# Altium schematic symbol library Wristband-EH-v1.SCHLIB: 20 symbols
Pins are listed as number, name and electrical type; pins without a type are passive.

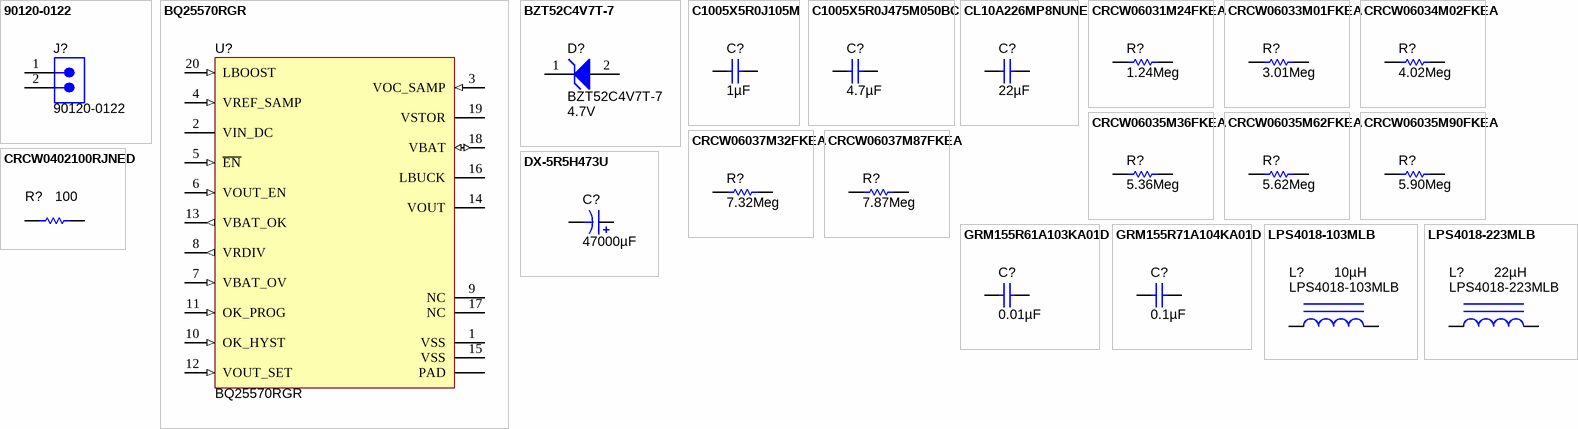
[diagram p0: symbols 90120-0122 to LPS4018-223MLB]

## 90120-0122
designator J?
Header, 100mil, 2x1, Tin plated, TH; Manufacturer: Molex; SymbolCreator: a0412235; U/M: EA; SymbolVersion: 2013-03-14; PartNumber: 90120-0122; CompType: Header; RoHS: Y; PackageReference: Header 2x1; MountType: TH; ComponentLink1Description: Datasheet Link; ComponentLink1URL: http://www.molex.com/pdm_docs/sd/901200122_sd.pdf; Publisher: Texas Instruments; LatestRevisionDate: 2013-09-12; Supplier 1: Digi-Key; Supplier Part Number 1: WM8072-ND; Supplier 2: Mouser; Supplier Part Number 2: 538-90120-0122; Supplier 3: Newark; Supplier Part Number 3: 19M8215
footprint CONN_90120-0122
pins: 1, 2
1 alternate drawing of the same symbol

## BQ25570RGR
designator U?
Ultra Low Power Harvester Power Management IC with Boost Charger, and Nano-Powered Buck Converter, RGR0020A; Alternate Manufacturer: None; Manufacturer: Texas Instruments; SymbolCreator: a0412235; U/M: EA; SymbolVersion: 2013-01-16; PartNumber: BQ25570RGR; PackageReference: RGR0020A; MountType: SMT; ComponentLink1Description: Datasheet Link; ComponentLink1URL: https://sps06.itg.ti.com/sites/KMS/crossdivteams/altium/docs/ComponentDatasheets/bq25570_DS_SLUSBH2_20130619.pdf; CompType: IC; RoHS: Y; Publisher: Texas Instruments; LatestRevisionDate: 2013-09-13; LatestRevisionNote: Added Parts
footprint RGR0020A
pins: 1 VSS (power), 2 VIN_DC (power), 3 VOC_SAMP (in), 4 VREF_SAMP (in), 5 ~{EN} (in), 6 VOUT_EN (in), 7 VBAT_OV (in), 8 VRDIV (out), 9 NC (power), 10 OK_HYST (in), 11 OK_PROG (in), 12 VOUT_SET (in), 13 VBAT_OK (out), 14 VOUT (power), 15 VSS (power), 16 LBUCK, 17 NC, 18 VBAT (io), 19 VSTOR (power), 20 LBOOST (in), 21 PAD (power)

## BZT52C4V7T-7
designator D?  value 4.7V
Diode, Zener, 4.7V, 300mW, SOD-523; Manufacturer: Diodes Inc.; U/M: EA; Power_W: 0.3; Vz_V: 4.7; Value1: 0.3W; RJA_CperW: 417; CompType: Zener; SymbolVersion: 2010-08-25; PartNumber: BZT52C4V7T-7; PackageReference: SOD-523; Vr_V: N/A; MountType: SMT; RoHS: Y; ComponentLink1Description: Datasheet link; ComponentLink1URL: http://www.diodes.com/datasheets/ds30502.pdf; Published: 2008-10-08; Publisher: Texas Instruments; LatestRevisionDate: 2013-09-09; LatestRevisionNote: Updated Supplier Data; Supplier 1: Digi-Key; Supplier Part Number 1: BZT52C4V7T-7DICT-ND; Supplier 2: Mouser; Supplier Part Number 2: 621-BZT52C4V7T-7
signal-integrity model Diode
footprint SOD-523
pins: 1 K, 2 A

## C1005X5R0J105M
designator C?  ValueDisplayed: 1µF  (hidden comment: C1005X5R0J105M)
CAP, CERM, 1uF, 6.3V, +/-20%, X5R, 0402; Manufacturer: TDK; Polarized: N; CompType: Capacitor; U/M: EA; Cap_F: 0.000001; Tolerance_%: 20; ESR_Ohm: 0.0079; Value1: 0.0079 ohm; VDC_V: 6.3; TaMin_C: -55; TaMax_C: 85; Cap_Case: 0402; SymbolVersion: 2008-07-09; Value: 1uF; PartNumber: C1005X5R0J105M; PackageReference: 0402; RoHS: Y; Value2: 6.3V; MountType: SMT; Technology: Ceramic; TempCo: X5R; Published: 2008-06-19; Publisher: Texas Instruments; LatestRevisionDate: 2013-11-25; ComponentLink1Description: Datasheet link; ComponentLink1URL: http://www.tdk.co.jp/tefe02/e412_c.pdf; Supplier 1: Digi-Key; Supplier Part Number 1: 445-1415-1-ND; Supplier 2: Farnell; Supplier Part Number 2: 1844107
signal-integrity model Cap
simulation model Cap
footprint 0402
footprint 0402M
footprint 0402L
footprint 0402S
pins: 1, 2

## C1005X5R0J475M050BC
designator C?  ValueDisplayed: 4.7µF  (hidden comment: C1005X5R0J475M050BC)
CAP, CERM, 4.7uF, 6.3V, +/-20%, X5R, 0402; Manufacturer: TDK; Polarized: N; CompType: Capacitor; U/M: EA; Cap_F: 0.0000047; Tolerance_%: 20; Value1: Unknown; VDC_V: 6.3; TaMin_C: -55; TaMax_C: 85; Cap_Case: 0402; SymbolVersion: 2008-07-09; Value: 4.7uF; PartNumber: C1005X5R0J475M050BC; PackageReference: 0402; RoHS: Y; Value2: 6.3V; MountType: SMT; Technology: Ceramic; TempCo: X5R; Published: 2008-06-19; Publisher: Texas Instruments; LatestRevisionDate: 2013-09-06; ComponentLink1Description: Datasheet link; ComponentLink1URL: http://www.tdk.com/pdf/TDKMLCCCapRange.pdf; Supplier 1: Digi-Key; Supplier Part Number 1: 445-7395-1-ND; Supplier 2: Farnell; Supplier Part Number 2: 1962109; Supplier 3: Newark; Supplier Part Number 3: 48T2906
signal-integrity model Cap
simulation model Cap
footprint 0402
footprint 0402M
footprint 0402L
pins: 1, 2

## CL10A226MP8NUNE
designator C?  ValueDisplayed: 22µF  (hidden comment: CL10A226MP8NUNE)
CAP, CERM, 22uF, 10V, +/-20%, X5R, 0603; Manufacturer: Samsung; Polarized: N; CompType: Capacitor; U/M: EA; Cap_F: 0.000022; Tolerance_%: 20; Value1: Unknown; VDC_V: 10; TaMin_C: -55; TaMax_C: 85; Cap_Case: 0603; SymbolVersion: 2008-07-09; Value: 22uF; PartNumber: CL10A226MP8NUNE; PackageReference: 0603; RoHS: Y; Value2: 10V; MountType: SMT; Technology: Ceramic; TempCo: X5R; Published: 2008-06-19; Publisher: Texas Instruments; LatestRevisionDate: 2013-09-06; ComponentLink1Description: Datasheet link; ComponentLink1URL: http://www.samsungsem.com/servlet/FileDownload?type=spec&file=CL10A226MP8NUNE.pdf; Supplier 1: Digi-Key; Supplier Part Number 1: 1276-1274-1-ND
signal-integrity model Cap
simulation model Cap
footprint 0603
footprint 0603M
footprint 0603L
footprint 0603_HV
pins: 1, 2

## CRCW06031M24FKEA
designator R?  value 1.24Meg  (hidden comment: CRCW06031M24FKEA)
RES, 1.24Meg ohm, 1%, 0.1W, 0603; Manufacturer: Vishay-Dale; CompType: Resistor; Res_ohm: 1240000; Value_Code: 1M24; Tolerance_%: 1; Power_W: 0.1; VDC_V: 75; TempCo: 100 ppm/C; EIA_Code: E96; U/M: EA; SymbolVersion: 2009-05-29; PartNumber: CRCW06031M24FKEA; PackageReference: 0603; RoHS: Y; Value1: 1%; Value2: 0.1W; MountType: SMT; Technology: Thick Film; Published: 2008-06-26; Publisher: Texas Instruments; LatestRevisionDate: 2013-08-23; ComponentLink1Description: Datasheet link; ComponentLink1URL: http://www.vishay.com/docs/20035/dcrcwe3.pdf; Supplier 1: Digi-Key; Supplier Part Number 1: 541-1.24MHCT-ND; Supplier 2: Mouser; Supplier Part Number 2: 71-CRCW06031M24FKEA; Supplier 3: Farnell; Supplier Part Number 3: 1892084
signal-integrity model Resistor
simulation model Resistor
footprint 0603
footprint 0603M
footprint 0603L
footprint 0603_HV
pins: 1, 2

## CRCW06033M01FKEA
designator R?  value 3.01Meg  (hidden comment: CRCW06033M01FKEA)
RES, 3.01Meg ohm, 1%, 0.1W, 0603; Manufacturer: Vishay-Dale; CompType: Resistor; Res_ohm: 3010000; Value_Code: 3M01; Tolerance_%: 1; Power_W: 0.1; VDC_V: 75; TempCo: 100 ppm/C; EIA_Code: E96; U/M: EA; SymbolVersion: 2009-05-29; PartNumber: CRCW06033M01FKEA; PackageReference: 0603; RoHS: Y; Value1: 1%; Value2: 0.1W; MountType: SMT; Technology: Thick Film; Published: 2008-06-26; Publisher: Texas Instruments; LatestRevisionDate: 2013-08-23; ComponentLink1Description: Datasheet link; ComponentLink1URL: http://www.vishay.com/docs/20035/dcrcwe3.pdf; Supplier 1: Digi-Key; Supplier Part Number 1: 541-3.01MHCT-ND; Supplier 2: Mouser; Supplier Part Number 2: 71-CRCW0603-3.01M-E3; Supplier 3: Farnell; Supplier Part Number 3: 1878630
signal-integrity model Resistor
simulation model Resistor
footprint 0603
footprint 0603M
footprint 0603L
footprint 0603_HV
pins: 1, 2

## CRCW06034M02FKEA
designator R?  value 4.02Meg  (hidden comment: CRCW06034M02FKEA)
RES, 4.02Meg ohm, 1%, 0.1W, 0603; Manufacturer: Vishay-Dale; CompType: Resistor; Res_ohm: 4020000; Value_Code: 4M02; Tolerance_%: 1; Power_W: 0.1; VDC_V: 75; TempCo: 100 ppm/C; EIA_Code: E96; U/M: EA; SymbolVersion: 2009-05-29; PartNumber: CRCW06034M02FKEA; PackageReference: 0603; RoHS: Y; Value1: 1%; Value2: 0.1W; MountType: SMT; Technology: Thick Film; Published: 2008-06-26; Publisher: Texas Instruments; LatestRevisionDate: 2013-08-23; ComponentLink1Description: Datasheet link; ComponentLink1URL: http://www.vishay.com/docs/20035/dcrcwe3.pdf; Supplier 1: Digi-Key; Supplier Part Number 1: 541-4.02MHCT-ND; Supplier 2: Mouser; Supplier Part Number 2: 71-CRCW06034M02FKEA; Supplier 3: Farnell; Supplier Part Number 3: 1570744
signal-integrity model Resistor
simulation model Resistor
footprint 0603
footprint 0603M
footprint 0603L
footprint 0603_HV
pins: 1, 2

## CRCW06035M36FKEA
designator R?  value 5.36Meg  (hidden comment: CRCW06035M36FKEA)
RES, 5.36Meg ohm, 1%, 0.1W, 0603; Manufacturer: Vishay-Dale; CompType: Resistor; Res_ohm: 5360000; Value_Code: 5M36; Tolerance_%: 1; Power_W: 0.1; VDC_V: 75; TempCo: 100 ppm/C; EIA_Code: E96; U/M: EA; SymbolVersion: 2009-05-29; PartNumber: CRCW06035M36FKEA; PackageReference: 0603; RoHS: Y; Value1: 1%; Value2: 0.1W; MountType: SMT; Technology: Thick Film; Published: 2008-06-26; Publisher: Texas Instruments; LatestRevisionDate: 2013-08-23; ComponentLink1Description: Datasheet link; ComponentLink1URL: http://www.vishay.com/docs/20035/dcrcwe3.pdf; Supplier 1: Digi-Key; Supplier Part Number 1: 541-5.36MHCT-ND; Supplier 2: Mouser; Supplier Part Number 2: 71-CRCW06035M36FKEA
signal-integrity model Resistor
simulation model Resistor
footprint 0603
footprint 0603M
footprint 0603L
footprint 0603_HV
pins: 1, 2

## CRCW06035M62FKEA
designator R?  value 5.62Meg  (hidden comment: CRCW06035M62FKEA)
RES, 5.62Meg ohm, 1%, 0.1W, 0603; Manufacturer: Vishay-Dale; CompType: Resistor; Res_ohm: 5620000; Value_Code: 5M62; Tolerance_%: 1; Power_W: 0.1; VDC_V: 75; TempCo: 100 ppm/C; EIA_Code: E96; U/M: EA; SymbolVersion: 2009-05-29; PartNumber: CRCW06035M62FKEA; PackageReference: 0603; RoHS: Y; Value1: 1%; Value2: 0.1W; MountType: SMT; Technology: Thick Film; Published: 2008-06-26; Publisher: Texas Instruments; LatestRevisionDate: 2013-08-23; ComponentLink1Description: Datasheet link; ComponentLink1URL: http://www.vishay.com/docs/20035/dcrcwe3.pdf; Supplier 1: Digi-Key; Supplier Part Number 1: 541-5.62MHCT-ND; Supplier 2: Mouser; Supplier Part Number 2: 71-CRCW06035M62FKEA
signal-integrity model Resistor
simulation model Resistor
footprint 0603
footprint 0603M
footprint 0603L
footprint 0603_HV
pins: 1, 2

## CRCW06035M90FKEA
designator R?  value 5.90Meg  (hidden comment: CRCW06035M90FKEA)
RES, 5.90Meg ohm, 1%, 0.1W, 0603; Manufacturer: Vishay-Dale; CompType: Resistor; Res_ohm: 5900000; Value_Code: 5M90; Tolerance_%: 1; Power_W: 0.1; VDC_V: 75; TempCo: 100 ppm/C; EIA_Code: E96; U/M: EA; SymbolVersion: 2009-05-29; PartNumber: CRCW06035M90FKEA; PackageReference: 0603; RoHS: Y; Value1: 1%; Value2: 0.1W; MountType: SMT; Technology: Thick Film; Published: 2008-06-26; Publisher: Texas Instruments; LatestRevisionDate: 2013-08-23; ComponentLink1Description: Datasheet link; ComponentLink1URL: http://www.vishay.com/docs/20035/dcrcwe3.pdf; Supplier 1: Digi-Key; Supplier Part Number 1: 541-5.90MHCT-ND; Supplier 2: Mouser; Supplier Part Number 2: 71-CRCW06035M90FKEA
signal-integrity model Resistor
simulation model Resistor
footprint 0603
footprint 0603M
footprint 0603L
footprint 0603_HV
pins: 1, 2

## CRCW06037M32FKEA
designator R?  value 7.32Meg  (hidden comment: CRCW06037M32FKEA)
RES, 7.32Meg ohm, 1%, 0.1W, 0603; Manufacturer: Vishay-Dale; CompType: Resistor; Res_ohm: 7320000; Value_Code: 7M32; Tolerance_%: 1; Power_W: 0.1; VDC_V: 75; TempCo: 100 ppm/C; EIA_Code: E96; U/M: EA; SymbolVersion: 2009-05-29; PartNumber: CRCW06037M32FKEA; PackageReference: 0603; RoHS: Y; Value1: 1%; Value2: 0.1W; MountType: SMT; Technology: Thick Film; Published: 2008-06-26; Publisher: Texas Instruments; LatestRevisionDate: 2013-08-23; ComponentLink1Description: Datasheet link; ComponentLink1URL: http://www.vishay.com/docs/20035/dcrcwe3.pdf; Supplier 1: Digi-Key; Supplier Part Number 1: 541-7.32MHCT-ND; Supplier 2: Mouser; Supplier Part Number 2: 71-CRCW06037M32FKEA
signal-integrity model Resistor
simulation model Resistor
footprint 0603
footprint 0603M
footprint 0603L
footprint 0603_HV
pins: 1, 2

## CRCW06037M87FKEA
designator R?  value 7.87Meg  (hidden comment: CRCW06037M87FKEA)
RES, 7.87Meg ohm, 1%, 0.1W, 0603; Manufacturer: Vishay-Dale; CompType: Resistor; Res_ohm: 7870000; Value_Code: 7M87; Tolerance_%: 1; Power_W: 0.1; VDC_V: 75; TempCo: 100 ppm/C; EIA_Code: E96; U/M: EA; SymbolVersion: 2009-05-29; PartNumber: CRCW06037M87FKEA; PackageReference: 0603; RoHS: Y; Value1: 1%; Value2: 0.1W; MountType: SMT; Technology: Thick Film; Published: 2008-06-26; Publisher: Texas Instruments; LatestRevisionDate: 2013-08-23; ComponentLink1Description: Datasheet link; ComponentLink1URL: http://www.vishay.com/docs/20035/dcrcwe3.pdf; Supplier 1: Digi-Key; Supplier Part Number 1: 541-7.87MHCT-ND; Supplier 2: Mouser; Supplier Part Number 2: 71-CRCW06037M87FKEA
signal-integrity model Resistor
simulation model Resistor
footprint 0603
footprint 0603M
footprint 0603L
footprint 0603_HV
pins: 1, 2

## CRCW0402100RJNED
designator R?  value 100  (hidden comment: CRCW0402100RJNED)
RES, 100 ohm, 5%, 0.063W, 0402; Manufacturer: Vishay-Dale; CompType: Resistor; Value_Code: 100R; Tolerance_%: 5; Power_W: 0.063; VDC_V: 50; TempCo: 200 ppm/C; EIA_Code: E24; U/M: EA; SymbolVersion: 2009-05-29; PartNumber: CRCW0402100RJNED; PackageReference: 0402; RoHS: Y; Res_ohm: 100; Value1: 5%; Value2: 0.063W; MountType: SMT; Technology: Thick Film; Published: 2008-06-26; Publisher: Texas Instruments; LatestRevisionDate: 2013-01-08; ComponentLink1Description: Datasheet link; ComponentLink1URL: http://www.vishay.com/docs/20035/dcrcwe3.pdf; Supplier 1: Digi-Key; Supplier Part Number 1: 541-100JCT-ND; Supplier 2: Mouser; Supplier Part Number 2: 71-CRCW0402J-100-E3; Supplier 3: Farnell; Supplier Part Number 3: 1652740
signal-integrity model Resistor
simulation model Resistor
footprint 0402
footprint 0402M
footprint 0402L
pins: 1, 2

## DX-5R5H473U
designator C?  ValueDisplayed: 47000µF  (hidden comment: DX-5R5H473U)
CAP, Electric Double Layer, 47000uF, 5.5V, +80/-20%, TH; Manufacturer: Elna; Polarized: Y; CompType: Capacitor; U/M: EA; Cap_F: 0.047; Tolerance_%: 80; Value1: Unknown; VDC_V: 5.5; TaMin_C: -25; TaMax_C: 70; SymbolVersion: 2008-07-09; Value: 47000uF; PartNumber: DX-5R5H473U; PackageReference: Horizontal D11.5x5mm; RoHS: Y; Value2: 5.5V; MountType: TH; Technology: Electric Double Layer; Series: DX; Publisher: Texas Instruments; LatestRevisionDate: 2013-09-03; ComponentLink1Description: Datasheet link; ComponentLink1URL: http://www.elna.co.jp/en/capacitor/double_layer/catalog/pdf/dx_e.pdf; Supplier 1: Digi-Key; Supplier Part Number 1: 604-1021-ND; Supplier 2: Mouser; Supplier Part Number 2: 555-DX-5R5H473U
signal-integrity model Cap
simulation model Cap
footprint DX-H_1150x500
pins: 1 +, 2 -

## GRM155R61A103KA01D
designator C?  ValueDisplayed: 0.01µF  (hidden comment: GRM155R61A103KA01D)
CAP, CERM, 0.01uF, 10V, +/-10%, X5R, 0402; Manufacturer: MuRata; Polarized: N; CompType: Capacitor; U/M: EA; Cap_F: 0.00000001; Tolerance_%: 10; Value1: Unknown; TaMin_C: -55; TaMax_C: 85; Cap_Case: 0402; SymbolVersion: 2008-07-09; Value: 0.01uF; PartNumber: GRM155R61A103KA01D; PackageReference: 0402; RoHS: Y; VDC_V: 10; Value2: 10V; MountType: SMT; Technology: Ceramic; TempCo: X5R; Published: 2008-06-19; Publisher: Texas Instruments; LatestRevisionDate: 2013-09-06; ComponentLink1Description: Datasheet link; ComponentLink1URL: http://search.murata.co.jp/Ceramy/PnsearchViewAction.do?HnOFG=ON&HnNFG=ON&SEL_CNT=50&sLang=en&sKey=GRM155R61A103KA01D&x=9&y=9&search=startwith; Supplier 1: Digi-Key; Supplier Part Number 1: GRM155R61A103KA01D-ND; Supplier 2: Mouser; Supplier Part Number 2: 81-GRM155R61A103KA1D
signal-integrity model Cap
simulation model Cap
footprint 0402
footprint 0402M
footprint 0402L
pins: 1, 2

## GRM155R71A104KA01D
designator C?  ValueDisplayed: 0.1µF  (hidden comment: GRM155R71A104KA01D)
CAP, CERM, 0.1uF, 10V, +/-10%, X7R, 0402; Manufacturer: MuRata; Polarized: N; CompType: Capacitor; U/M: EA; Cap_F: 0.0000001; Tolerance_%: 10; Value1: Unknown; TaMin_C: -55; TaMax_C: 125; Cap_Case: 0402; SymbolVersion: 2008-07-09; Value: 0.1uF; PartNumber: GRM155R71A104KA01D; PackageReference: 0402; RoHS: Y; VDC_V: 10; Value2: 10V; MountType: SMT; Technology: Ceramic; TempCo: X7R; Published: 2008-06-19; Publisher: Texas Instruments; LatestRevisionDate: 2013-09-06; ComponentLink1Description: Datasheet link; ComponentLink1URL: http://search.murata.co.jp/Ceramy/PnsearchViewAction.do?HnOFG=ON&HnNFG=ON&SEL_CNT=50&sLang=en&sKey=GRM155R71A104KA01D&x=9&y=9&search=startwith; Supplier 1: Digi-Key; Supplier Part Number 1: GRM155R71A104KA01D-ND; Supplier 2: Mouser; Supplier Part Number 2: 81-GRM155R71A104KA1D; Supplier 3: Farnell; Supplier Part Number 3: 1828860
signal-integrity model Cap
simulation model Cap
footprint 0402
footprint 0402M
footprint 0402L
pins: 1, 2

## LPS4018-103MLB
designator L?  ValueDisplayed: 10µH
Inductor, Shielded Drum Core, Ferrite, 10uH, 1.25A, 0.2 ohm, SMD; Manufacturer: Coilcraft; Ind_H: 10.0E-6; Imax_A: 1.25; Irms: 1.25A @ 40C rise; Isat: 1.3A @ 30% inductance drop; DCR_ohm: 0.2; Value1: 0.2 ohm; U/M: EA; SymbolVersion: 2008-07-23; CompType: Inductor; Value: 10uH; PartNumber: LPS4018-103MLB; PackageReference: LPS4018; Value2: 1.25A; Technology: Shielded Drum Core; MountType: SMT; Material: Ferrite; Published: 2008-06-26; Publisher: Texas Instruments; LatestRevisionDate: 2013-09-15; ComponentLink1Description: Datasheet link; ComponentLink1URL: http://www.coilcraft.com/pdfs/lps4018.pdf; RoHS: Y
signal-integrity model Inductor
simulation model Inductor
footprint LPS4018
pins: 1, 2

## LPS4018-223MLB
designator L?  ValueDisplayed: 22µH
Inductor, Shielded Drum Core, Ferrite, 22uH, 0.83A, 0.36 ohm, SMD; Manufacturer: Coilcraft; Ind_H: 22.0E-6; Imax_A: 0.83; Irms: 0.9A @ 40C rise; Isat: 0.83A @ 30% inductance drop; DCR_ohm: 0.36; U/M: EA; SymbolVersion: 2008-07-23; CompType: Inductor; Value: 22uH; PartNumber: LPS4018-223MLB; PackageReference: LPS4018; Value1: 0.36 ohm; Value2: 0.83A; Technology: Shielded Drum Core; MountType: SMT; Material: Ferrite; Published: 2008-06-26; Publisher: Texas Instruments; LatestRevisionDate: 2013-09-15; ComponentLink1Description: Datasheet link; ComponentLink1URL: http://www.coilcraft.com/pdfs/lps4018.pdf; RoHS: Y
signal-integrity model Inductor
simulation model Inductor
footprint LPS4018
pins: 1, 2